# Altium schematic symbol library MT3608.SchLib: 1 symbol
Pins are listed as number, name and electrical type; pins without a type are passive.

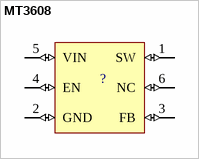
[diagram p0: symbol MT3608]

## MT3608
designator ?  (value not drawn)
High Efficiency 1.2MHz / 2A Step Up Converter; MF: Aerosemi Technology Co., Ltd; MP: MT3608; Price: None; SnapEDA_Link: https://www.snapeda.com/parts/MT3608/Aerosemi%20Technology%20Co.%2C%20Ltd/view-part/?ref=snap; Availability: Unavailable; Package: Package Analog Devices; Value: *
footprint *SOT23-6
pins: 1 SW (io), 2 GND (io), 3 FB (io), 4 EN (io), 5 VIN (io), 6 NC (io)